# Altium footprint library APD_flex_R02.PcbLib: 9 footprints
Each footprint in its own frame and in the unit in brackets; x right, y up, seen from the top. Pads: shape width x height; smd on the part's side, far side on the other; paste and mask are expansions set on the pad; w line width, h text height; cw(c..) or ccw(c..) is an arc to the next point about the centre after c.
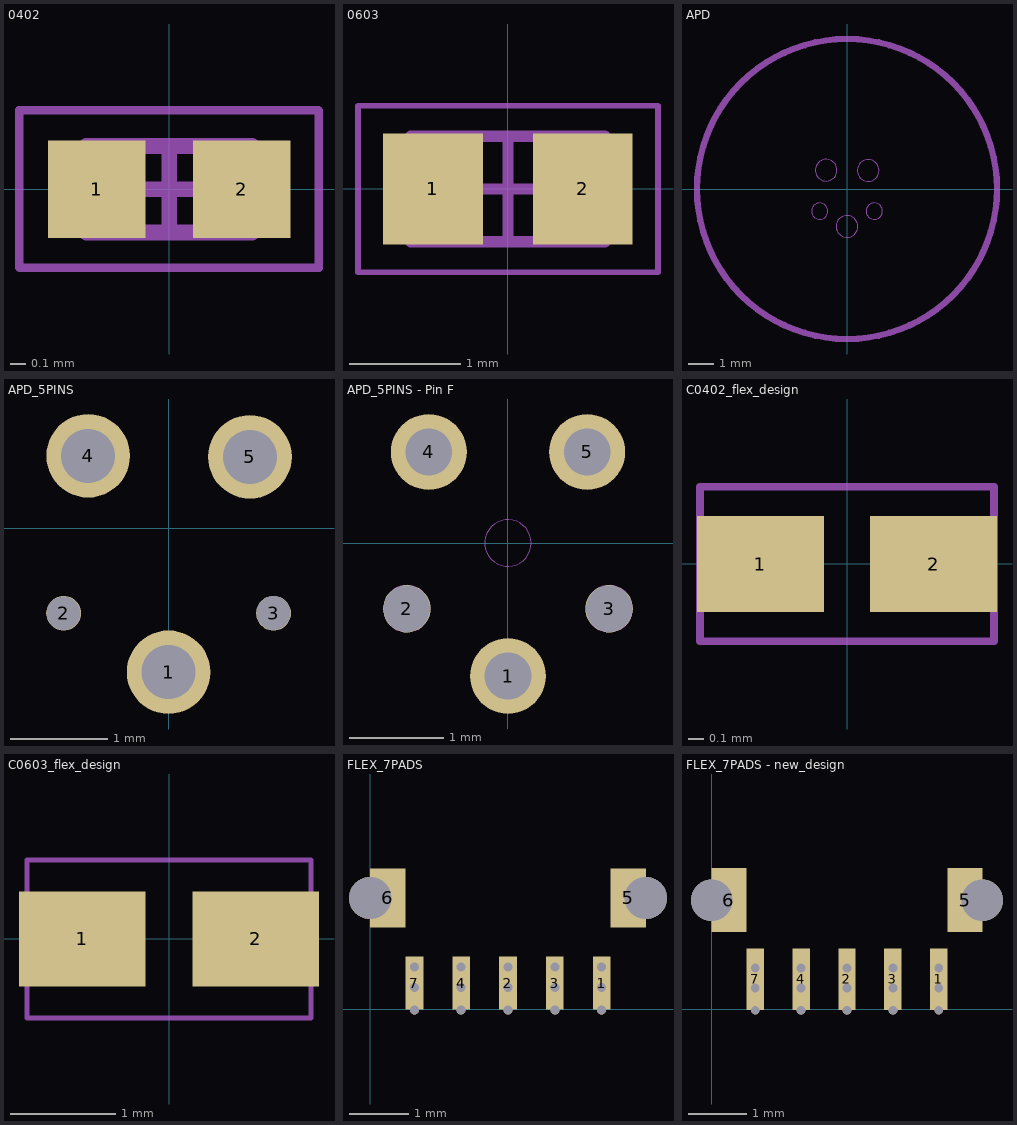
[diagram p0: the footprints below, top view; thin cyan lines are the x and y axes]

## 0402 [mm]
height 0.4
pads (2):
  rect 0.62x0.62 smd: 1(-0.46,0) 2(0.46,0)
Top Assembly:
  lines w0.05: -0.953,-0.497 0.947,-0.497 0.947,0.503 -0.953,0.503 -0.953,-0.497
  text "'.Designator'" at -1.136,-0.096 h0.7
Mechanical 10:
  lines w0.1: -0.525,-0.275 -0.525,0.275 0.525,0.275 0.525,-0.275 -0.525,-0.275
Mechanical 13:
  lines w0.1: -0.525,-0.275 -0.525,0.275 0.525,0.275 0.525,-0.275 -0.525,-0.275
Mechanical 15:
  lines w0.05: -0.95,-0.5 -0.95,0.5 0.95,0.5 0.95,-0.5 -0.95,-0.5
  lines w0.1: -0.275,0 0.275,0 ; 0,-0.275 0,0.275
3D body: height 0.4, standoff 0, extent -0.275,-0.275 0.275,0.275
3D body: height 0.4, standoff 0, extent -0.525,-0.275 -0.275,0.275
3D body: height 0.4, standoff 0, extent 0.275,-0.275 0.525,0.275

## 0603 [mm]
height 0.55
pads (2):
  rect 0.9x1 smd: 1(-0.675,0) 2(0.675,0)
Top Assembly:
  lines w0.05: -1.347,-0.75 -1.347,0.75 1.353,0.75 1.353,-0.75 -1.347,-0.75
  text "'.Designator'" at -1.309,-0.12 h0.7
Mechanical 10:
  lines w0.1: -0.875,-0.475 0.875,-0.475 0.875,0.475 -0.875,0.475 -0.875,-0.475
Mechanical 13:
  lines w0.1: -0.875,-0.475 0.875,-0.475 0.875,0.475 -0.875,0.475 -0.875,-0.475
Mechanical 15:
  lines w0.05: -1.35,-0.75 1.35,-0.75 1.35,0.75 -1.35,0.75 -1.35,-0.75
  lines w0.1: -0.475,0 0.475,0 ; 0,-0.475 0,0.475
3D body: height 0.55, standoff 0, extent 0.575,-0.475 0.875,0.475
3D body: height 0.55, standoff 0, extent -0.875,-0.475 -0.575,0.475
3D body: height 0.55, standoff 0, extent -0.575,-0.475 0.575,0.475

## APD [mm]
Mechanical 1:
  circle w0.254: c0,0 r5.96
Mechanical 4:
  circle w0.013: c1.085,-0.879 r0.325
  circle w0.013: c0,-1.489 r0.432
  circle w0.013: c-1.084,-0.88 r0.325
  circle w0.013: c-0.831,0.746 r0.432
  circle w0.013: c0.841,0.736 r0.432
3D body: height 0, standoff 0, extent -6.039,-5.976 5.961,6.024
3D body: height 0.25, standoff 0, extent -5.929,8.546 -5.929,8.546

## APD_5PINS [mm]
pads (5):
  round 0.864 hole 0.559 paste+0 mask+0.051: 1(0,-1.489) 4(-0.831,0.746) 5(0.841,0.736)
  round 0.36 / inner round 0.864 / far side round 0.65 hole 0.35 unplated paste+0 mask+0.05: 2(-1.084,-0.88) 3(1.085,-0.879)
3D body: height 0.25, standoff 0, extent -5.929,8.546 -5.929,8.546

## APD_5PINS - Pin F [mm]
pads (5):
  round 0.8 hole 0.49 paste+0 mask+0.12: 1(0.001,-1.4) 4(-0.832,0.958) 5(0.834,0.958)
  round 0.5 / inner round 0.36 / far side round 0.8 hole 0.49 mask+0.12: 2(-1.064,-0.692)
  round 0.5 / inner round 0.864 / far side round 0.8 hole 0.49 mask+0.12: 3(1.066,-0.692)
Mechanical 4:
  circle w0.013: c1.066,-0.692 r0.245
  circle w0.013: c-1.064,-0.692 r0.245
  circle w0.013: c0.834,0.958 r0.245
  circle w0.013: c0.001,0 r0.245
  circle w0.013: c-0.832,0.958 r0.245
  circle w0.013: c0.001,-1.4 r0.245
3D body: height 0.25, standoff 0, extent -5.929,8.546 -5.929,8.546

## C0402_flex_design [mm]
height 0.35
pads (2):
  rect 0.82x0.62 smd paste-2 mask-1: 1(-0.56,0)
  rect 0.82x0.62 smd paste-5 mask-1: 2(0.56,0)
Top Paste:
  rectangle: -0.78,-0.308 -0.236,0.307
  rectangle: 0.236,-0.308 0.78,0.308
Top Solder:
  rectangle: 0.233,-0.425 0.783,0.425
  rectangle: -0.783,-0.425 -0.234,0.425
Top Assembly:
  lines w0.05: -0.95,-0.5 -0.95,0.5 0.95,0.5 0.95,-0.5 -0.95,-0.5
  text "'.Designator'" at -0.65,-0.15 h0.7
3D body "C0402_035.step": height 0.35, standoff 0, extent -0.5,-0.25 0.5,0.25

## C0603_flex_design [mm]
height 0.4
pads (2):
  rect 1.2x0.9 smd paste-5 mask-2: 1(-0.825,0) 2(0.825,0)
Top Paste:
  rectangle: 0.456,-0.443 1.194,0.443
  rectangle: -1.131,-0.443 -0.394,0.444
Top Solder:
  rectangle: 0.452,-0.523 1.198,0.523
  rectangle: -1.198,-0.523 -0.452,0.523
Top Assembly:
  lines w0.05: -1.35,-0.75 -1.35,0.75 1.35,0.75 1.35,-0.75 -1.35,-0.75
  text "'.Designator'" at -0.875,-0.125 h0.7
3D body "C0603_040.step": height 0.4, standoff 0, extent -0.8,-0.4 0.8,0.4

## FLEX_7PADS [mm]
pads (7):
  rect 0.3x0.9 all layers, no hole mask+0: 1(3.905,0.445) 2(2.325,0.445) 3(3.115,0.445) 4(1.535,0.445) 7(0.745,0.445)
  rect 0.6x1 all layers, no hole mask+0.075: 5(4.356,1.88) 6(0.294,1.88)
via 0.745,-0.012 diameter 0.15 hole 0.15
via 1.535,-0.012 diameter 0.15 hole 0.15
via 2.325,-0.012 diameter 0.15 hole 0.15
via 3.115,-0.012 diameter 0.15 hole 0.15
via 3.115,0.369 diameter 0.15 hole 0.15
via 3.115,0.712 diameter 0.15 hole 0.15
via 2.325,0.712 diameter 0.15 hole 0.15
via 2.325,0.369 diameter 0.15 hole 0.15
via 1.535,0.369 diameter 0.15 hole 0.15
via 1.535,0.712 diameter 0.15 hole 0.15
via 0.745,0.712 diameter 0.15 hole 0.15
via 0.745,0.369 diameter 0.15 hole 0.15
via 3.905,-0.012 diameter 0.15 hole 0.15
via 3.905,0.369 diameter 0.15 hole 0.15
via 3.905,0.712 diameter 0.15 hole 0.15
via 0,1.88 diameter 0.712 hole 0.712
via 4.65,1.88 diameter 0.712 hole 0.712
Top Solder:
  rectangle: 0,0 4.65,0.95
Bottom Solder:
  rectangle: 0,0 4.65,0.95

## FLEX_7PADS - new_design [mm]
pads (7):
  rect 0.3x1.05 all layers, no hole mask-1: 1(3.905,0.52) 2(2.325,0.52) 3(3.115,0.52) 4(1.535,0.52) 7(0.745,0.52)
  rect 0.6x1.1 all layers, no hole mask-1: 5(4.356,1.88) 6(0.294,1.88)
via 4.65,1.88 diameter 0.712 hole 0.712
via 0,1.88 diameter 0.712 hole 0.712
via 3.905,0.712 diameter 0.15 hole 0.15
via 3.905,0.369 diameter 0.15 hole 0.15
via 3.905,-0.012 diameter 0.15 hole 0.15
via 0.745,0.369 diameter 0.15 hole 0.15
via 0.745,0.712 diameter 0.15 hole 0.15
via 1.535,0.712 diameter 0.15 hole 0.15
via 1.535,0.369 diameter 0.15 hole 0.15
via 2.325,0.369 diameter 0.15 hole 0.15
via 2.325,0.712 diameter 0.15 hole 0.15
via 3.115,0.712 diameter 0.15 hole 0.15
via 3.115,0.369 diameter 0.15 hole 0.15
via 3.115,-0.012 diameter 0.15 hole 0.15
via 2.325,-0.012 diameter 0.15 hole 0.15
via 1.535,-0.012 diameter 0.15 hole 0.15
via 0.745,-0.012 diameter 0.15 hole 0.15
Top Solder:
  rectangle: 0,0 4.65,0.95
  rectangle: -0.045,1.393 0.633,2.366
  rectangle: 4.018,1.393 4.695,2.366
Bottom Solder:
  rectangle: 0,0 4.65,0.95
  rectangle: -0.045,1.393 0.633,2.366
  rectangle: 4.018,1.393 4.695,2.366